# Altium schematic symbol library StarKit V1.0.SCHLIB: 63 symbols
Pins are listed as number, name and electrical type; pins without a type are passive.

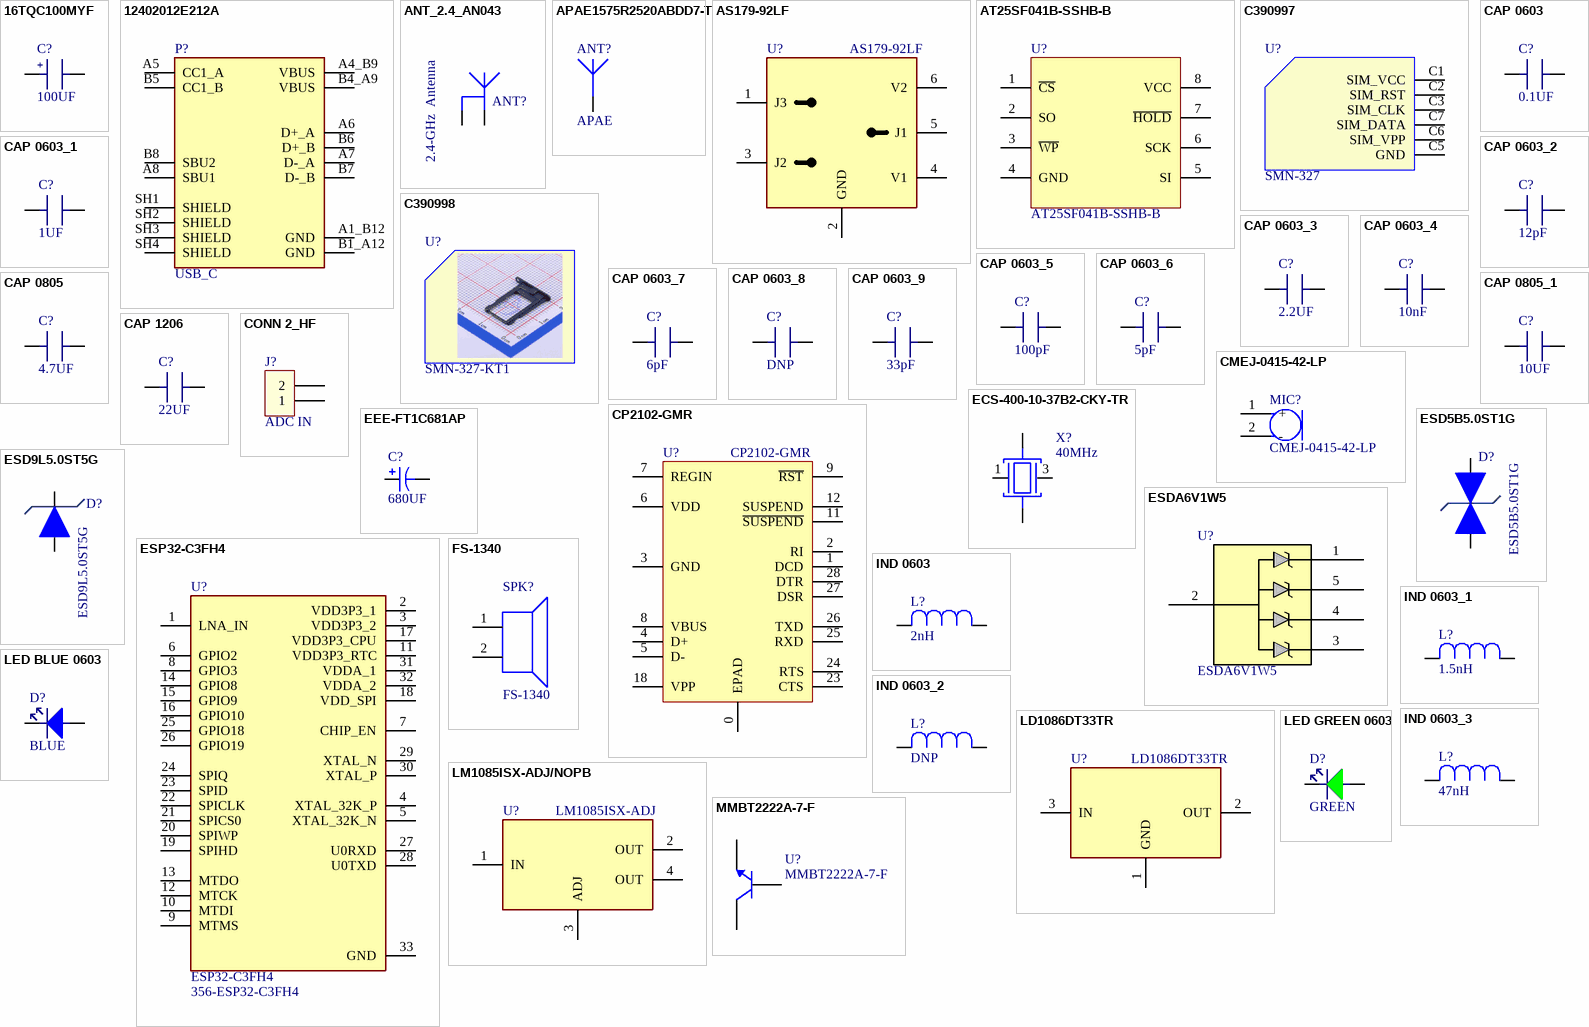
[diagram p0: symbols 16TQC100MYF to MMBT2222A-7-F]

## 16TQC100MYF
designator C?, comment 100UF
Tantalum Polymer Capacitor, 100 uF, 16 V, ± 20%, D2, 50 mohm, 2917 [7343-19 Metric]; Manufacturer: Panasonic; Manufacturer Part Number: 16TQC100MYF; Supplier 1: Mouser; RoHS: Yes; Category: Polymer Capacitors; Stock 1: 5797; Pricing 1: 1=2.61, 10=2.17, 50=1.93, 100=1.73, 1000=1.38, 10000=1.23 (USD); ComponentLink1URL: https://datasheet.ciiva.com/48674/aaa8000ce14-48674997.pdf?src-supplier=Avnet; ComponentLink1Description: https://datasheet.ciiva.com/48674/aaa8000ce14-48674997.pdf?src-supplier=Avnet; ComponentLink2URL: https://datasheet.ciiva.com/25784/1734368-25784893.pdf?src-supplier=Farnell; ComponentLink2Description: https://datasheet.ciiva.com/25784/1734368-25784893.pdf?src-supplier=Farnell; ComponentLink3URL: https://datasheet.ciiva.com/22745/1734368-22745198.pdf?src-supplier=Element14; ComponentLink3Description: https://datasheet.ciiva.com/22745/1734368-22745198.pdf?src-supplier=Element14; Supplier Part Number 1: 667-16TQC100MYF
footprint CAP: TANTAL-D
pins: 1 + "positive", 2 - "negative"

## 12402012E212A
designator P?, comment USB_C
USB Connectors USB2.0, Type C, Top mount, CH 1.68mm, Dual Row SMT; Manufacturer: Amphenol; Manufacturer Part Number: 12402012E212A; Supplier: Mouser; Supplier Part Number: 523-12402012E212A; RoHS: No; Category: Connectors; Stock: 14661; Pricing: 1=0.66, 10=0.523, 50=0.502, 100=0.46, 1000=0.345, 10000=0.293 (USD); Supplier 1: Mouser; Supplier Part Number 1: 523-12402012E212A
footprint AMPHENOL_12402012E212A
pins: A1_B12 GND, A4_B9 VBUS, A5 CC1_A, A6 D+_A, A7 D-_A, A8 SBU1, B1_A12 GND, B4_A9 VBUS, B5 CC1_B, B6 D+_B, B7 D-_B, B8 SBU2, SH1 SHIELD, SH2 SHIELD, SH3 SHIELD, SH4 SHIELD

## ANT_2.4_AN043
designator ANT?, comment 2.4-GHz  Antenna
Frequency 2.4 GHz             Typical Efficiency 68%               Bandwidth@ VSWR 2:0 101 MHz            Dimensions (mm) 15 x 8
footprint ANT_2.4_AN043 (Frequency 2.4 GHz / Typical Efficiency 80%(EB) 94%(SA) / Dimensions (mm) 26 x 8)
pins: 1, 2

## APAE1575R2520ABDD7-T
designator ANT?, comment APAE
1575.42MHZ, 25*25*2mm GPS Patch Antenna; Manufacturer: Abracon; Manufacturer Part Number: APAE1575R2520ABDD7-T; Supplier 1: Mouser; RoHS: Yes; Category: RF Antennas; Stock 1: 803; Pricing 1: 1=1.7, 10=1.23, 50=1.23, 100=1.23, 1000=0.777, 10000=0.748 (USD); ComponentLink1URL: https://datasheet.ciiva.com/6491/apae1575r2520abdd7-t-6491907.pdf?src-supplier=Digi-Key; ComponentLink1Description: https://datasheet.ciiva.com/6491/apae1575r2520abdd7-t-6491907.pdf?src-supplier=Digi-Key; ComponentLink2URL: https://datasheet.ciiva.com/12398/apae1575r2520abdd7-t-218096-12398364.pdf?src-supplier=Mouser; ComponentLink2Description: https://datasheet.ciiva.com/12398/apae1575r2520abdd7-t-218096-12398364.pdf?src-supplier=Mouser; Supplier Part Number 1: 815-1575R2520ABDD7T
footprint Ceramic Patch Antenna 25x25
pins: 1

## AS179-92LF
designator U?
RF Switch SPDT 0.02MHz to 4GHz 20dB Automotive 6-Pin SC-88 T/R / IC SW SPDT DC-3GHZ GAAS SC70-6; Manufacturer: Skyworks Solutions; Supplier: Mouser; Supplier Part Number: 873-AS179-92LF; Manufacturer Part Number: AS179-92LF; RoHS: Yes; Category: Integrated Circuits (ICs); Stock: 56001; Pricing: 1=1.19, 10=1.02, 50=1.02, 100=0.778, 1000=0.543, 10000=0.462 (USD); ComponentLink1URL: https://datasheet.ciiva.com/12080/200176g-18773-12080182.pdf?src-supplier=Mouser; ComponentLink1Description: https://datasheet.ciiva.com/12080/200176g-18773-12080182.pdf?src-supplier=Mouser; ComponentLink2URL: https://datasheet.ciiva.com/15100/getdatasheetpartid-658205-15100462.pdf?src-supplier=Verical; ComponentLink2Description: https://datasheet.ciiva.com/15100/getdatasheetpartid-658205-15100462.pdf?src-supplier=Verical; ComponentLink3URL: https://datasheet.ciiva.com/22694/1909043-22694026.pdf?src-supplier=Element14; ComponentLink3Description: https://datasheet.ciiva.com/22694/1909043-22694026.pdf?src-supplier=Element14; ComponentLink4URL: https://datasheet.ciiva.com/2799/200176g-2799448.pdf?src-supplier=Digi-Key; ComponentLink4Description: https://datasheet.ciiva.com/2799/200176g-2799448.pdf?src-supplier=Digi-Key; ComponentLink5URL: https://datasheet.ciiva.com/2799/200176g-2799449.pdf?src-supplier=Digi-Key; ComponentLink5Description: https://datasheet.ciiva.com/2799/200176g-2799449.pdf?src-supplier=Digi-Key; ComponentLink6URL: https://datasheet.ciiva.com/2799/200176g-2799450.pdf?src-supplier=Digi-Key; ComponentLink6Description: https://datasheet.ciiva.com/2799/200176g-2799450.pdf?src-supplier=Digi-Key; Supplier 1: Mouser; Supplier Part Number 1: 873-AS179-92LF
footprint SC70-6 (SOT23, 5-Leads, Body 2,90x2,80mm, Pitch 0,95mm, IPC Medium Density)
pins: 1 J3, 2 GND, 3 J2, 4 V1, 5 J1, 6 V2

## AT25SF041B-SSHB-B
designator U?
NOR Flash Serial (SPI, Dual SPI, Quad SPI) 3.3V 4M-bit 512K x 8 7ns Tube; Manufacturer: Renesas; Supplier: Mouser; Supplier Part Number: 988-AT25SF041-SSH-B; Manufacturer Part Number: AT25SF041B-SSHB-B; RoHS: No; Category: Memory; Stock: 14517; Pricing: 1=0.42, 10=0.38, 50=0.38, 100=0.333, 1000=0.326, 10000=0.287 (USD); Supplier 1: Mouser; Supplier Part Number 1: 988-AT25SF041-SSH-B
footprint 8-SOIC
pins: 1 ~{CS}, 2 SO, 3 ~{WP}, 4 GND, 5 SI, 6 SCK, 7 ~{HOLD}, 8 VCC

## C390997
designator U?, comment SMN-327
NanoSIM SMD SIM Card Connectors; Publisher: Bastam Beyrami; ComponentLink1Description: LCSC; ComponentLink1URL: https://lcsc.com/product-detail/SIM-Card-Connectors_XUNPU-SMN-327_C390997.html
footprint SIM_NANO_SMN-327
pins: C1 SIM_VCC, C2 SIM_RST, C3 SIM_CLK, C5 GND, C6 SIM_VPP, C7 SIM_DATA

## C390998
designator U?, comment SMN-327-KT1  (mechanical)
NanoSIM tray SIM Card Connectors; Publisher: Bastam Beyrami; ComponentLink1Description: LCSC; ComponentLink1URL: https://lcsc.com/product-detail/SIM-Card-Connectors_XUNPU-SMN-327-KT1_C390998.html

## CAP 0603
designator C?, comment 0.1UF
CAP SMD 0603
footprint CAP: 0603
pins: 1 A, 2 B

## CAP 0603_1
designator C?, comment 1UF
CAP SMD 0603
footprint CAP: 0603
pins: 1 A, 2 B

## CAP 0603_2
designator C?, comment 12pF
CAP SMD 0603
footprint CAP: 0603
pins: 1 A, 2 B

## CAP 0603_3
designator C?, comment 2.2UF
CAP SMD 0603
footprint CAP: 0603
pins: 1 A, 2 B

## CAP 0603_4
designator C?, comment 10nF
CAP SMD 0603
footprint CAP: 0603
pins: 1 A, 2 B

## CAP 0603_5
designator C?, comment 100pF
CAP SMD 0603
footprint CAP: 0603
pins: 1 A, 2 B

## CAP 0603_6
designator C?, comment 5pF
CAP SMD 0603
footprint CAP: 0603
pins: 1 A, 2 B

## CAP 0603_7
designator C?, comment 6pF
CAP SMD 0603
footprint CAP: 0603
pins: 1 A, 2 B

## CAP 0603_8
designator C?, comment DNP
CAP SMD 0603
footprint CAP: 0603
pins: 1 A, 2 B

## CAP 0603_9
designator C?, comment 33pF
CAP SMD 0603
footprint CAP: 0603
pins: 1 A, 2 B

## CAP 0805
designator C?, comment 4.7UF
CAP SMD 0805
footprint CAP: 0805
pins: 1 A, 2 B

## CAP 0805_1
designator C?, comment 10UF
CAP SMD 0805
footprint CAP: 0805
pins: 1 A, 2 B

## CAP 1206
designator C?, comment 22UF
CAP SMD 1206
footprint CAP: 1206
pins: 1 A, 2 B

## CMEJ-0415-42-LP
designator MIC?
4.0 mm, Omnidirectional, PCB Mount, 2.0 Vdc, Elecret Condenser Microphone; Manufacturer: CUI Devices; Supplier 1: Mouser; Manufacturer Part Number: CMEJ-0415-42-LP; RoHS: No; Category: Microphones; Stock 1: 3285; Pricing 1: 1=0.43, 10=0.367, 50=0.367, 100=0.308, 1000=0.254, 10000=0.209 (USD); ComponentLink1URL: https://www.cuidevices.com/product/resource/digikeypdf/cmej-0415-42-lp.pdf?src-supplier=Digi-Key; ComponentLink1Description: https://www.cuidevices.com/product/resource/digikeypdf/cmej-0415-42-lp.pdf?src-supplier=Digi-Key; Supplier Part Number 1: 490-CMEJ-0415-42-LP
footprint CMEJ041542LP
pins: 1 +, 2 -

## CONN 2_HF
designator J?, comment ADC IN
footprint CON: PLS-2
pins: 1, 2 (power)

## CP2102-GMR
designator U?
Interface IC low speed/full speed USB to UART bridge USB 2.0 3.3V, CP2102-GMR, VFQFN-28; Manufacturer: Silicon Labs; Number of Channels: 1; Data Rate: 1000Kbps; Max Supply Voltage: 3.6V; Min Supply Voltage: 3V; Operating Supply Current: 20mA; Supply Current: 26mA; Supplier 1: Mouser; Manufacturer Part Number: CP2102-GMR; RoHS: Yes; Category: Interface ICs; Stock 1: 44709; Pricing 1: 1=9.23, 10=8.41, 50=7.82, 100=6.93, 1000=5.28, 10000=5.16 (USD); Mount: Surface Mount; Case/Package: QFN; Number of Pins: 28; Weight: 0.00239oz; Contact Plating: Tin; Min Operating Temperature: -40°C; Max Operating Temperature: 85°C; Packaging: Tape and Reel; Package Quantity: 1500; Interface: UART; Series: -; Radiation Hardening: No; Lead Free: Lead Free; RoHS Compliant: Yes; ComponentLink1URL: https://datasheet.ciiva.com/6636/cp2102-9-6636566.pdf?src-supplier=Digi-Key; ComponentLink1Description: https://datasheet.ciiva.com/6636/cp2102-9-6636566.pdf?src-supplier=Digi-Key; ComponentLink2URL: https://datasheet.ciiva.com/6636/cp2102-9-6636571.pdf?src-supplier=Digi-Key; ComponentLink2Description: https://datasheet.ciiva.com/6636/cp2102-9-6636571.pdf?src-supplier=Digi-Key; Supplier Part Number 1: 634-CP2102-GMR
footprint 28-QFN (5x5) (5x5 mm, pitch 0.5 mm, power pad)
pins: 0 EPAD, 1 DCD, 2 RI, 3 GND, 4 D+, 5 D-, 6 VDD, 7 REGIN, 8 VBUS, 9 ~{RST}, 11 ~{SUSPEND}, 12 SUSPEND, 18 VPP, 23 CTS, 24 RTS, 25 RXD, 26 TXD, 27 DSR, 28 DTR

## ECS-400-10-37B2-CKY-TR
designator X?, comment 40MHz
Crystal 40MHz 10pF 4-Pin SMD ECX-1637B2 T/R; Manufacturer: ECS International; Manufacturer Part Number: ECS-400-10-37B2-CKY-TR; Supplier 1: Mouser; RoHS: No; Category: Uncategorized; Stock 1: 5766; Pricing 1: 1=0.38, 10=0.285, 50=0.285, 100=0.253, 1000=0.203, 10000=0.176 (USD); Supplier Part Number 1: 520-400-10-37B2CKYTR
footprint 4-SMD, No Lead ECS
pins: 1, 2 GND (power), 3, 4 GND (power)

## EEE-FT1C681AP
designator C?, comment 680UF
Cap Aluminum 680uF 16V 20% (8 X 10.2mm) SMD 0.08 Ohm 850mA 2000h 105 C T/R; Manufacturer: Panasonic; Manufacturer Part Number: EEE-FT1C681AP; Supplier 1: Mouser; RoHS: Yes; Category: Aluminum Electrolytic Capacitors; Stock 1: 3000; Pricing 1: 1=0.97, 10=0.601, 50=0.601, 100=0.528, 1000=0.352, 10000=0.296 (USD); ComponentLink1URL: https://datasheet.ciiva.com/11777/0900766b8103053b-11777415.pdf?src-supplier=Rs; ComponentLink1Description: https://datasheet.ciiva.com/11777/0900766b8103053b-11777415.pdf?src-supplier=Rs; ComponentLink2URL: https://datasheet.ciiva.com/2985/aba0000ce135-2985584.pdf?src-supplier=Avnet; ComponentLink2Description: https://datasheet.ciiva.com/2985/aba0000ce135-2985584.pdf?src-supplier=Avnet; ComponentLink3URL: https://datasheet.ciiva.com/48523/smd-ft-eng-tds-48523095.pdf?src-supplier=Distrelec; ComponentLink3Description: https://datasheet.ciiva.com/48523/smd-ft-eng-tds-48523095.pdf?src-supplier=Distrelec; Supplier Part Number 1: 667-EEE-FT1C681AP
footprint CAP_ELEC_8X10.5
pins: 1, 2

## ESD5B5.0ST1G
designator D?
ESD5B5.0S Series 5.8 V 50 W 32 pF SMT ESD Protection Diode - SOD-523; Manufacturer: ON Semiconductor; Supplier 1: Mouser; Manufacturer Part Number: ESD5B5.0ST1G; RoHS: Yes; Category: ESD and Circuit Protection ICs; Stock 1: 309834; Pricing 1: 1=0.27, 10=0.185, 50=0.185, 100=0.086, 1000=0.063, 10000=0.038 (USD); ComponentLink1URL: https://datasheet.ciiva.com/339/esd5b5-0st1g-339772.pdf?src-supplier=Digi-Key; ComponentLink1Description: https://datasheet.ciiva.com/339/esd5b5-0st1g-339772.pdf?src-supplier=Digi-Key; ComponentLink2URL: https://datasheet.ciiva.com/339/esd5b5-0st1g-339772.pdf?src-supplier=Avnet; ComponentLink2Description: https://datasheet.ciiva.com/339/esd5b5-0st1g-339772.pdf?src-supplier=Avnet; ComponentLink3URL: https://datasheet.ciiva.com/4510/esd5b5-0st1g-241623-4510548.pdf?src-supplier=Mouser; ComponentLink3Description: https://datasheet.ciiva.com/4510/esd5b5-0st1g-241623-4510548.pdf?src-supplier=Mouser; ComponentLink4URL: https://datasheet.ciiva.com/22637/716649-22637178.pdf?src-supplier=Element14; ComponentLink4Description: https://datasheet.ciiva.com/22637/716649-22637178.pdf?src-supplier=Element14; ComponentLink5URL: https://datasheet.ciiva.com/339/esd5b5-0st1-d-339773.pdf?src-supplier=Digi-Key; ComponentLink5Description: https://datasheet.ciiva.com/339/esd5b5-0st1-d-339773.pdf?src-supplier=Digi-Key; ComponentLink6URL: https://datasheet.ciiva.com/339/esd5b5-0st1-d-339774.pdf?src-supplier=Digi-Key; ComponentLink6Description: https://datasheet.ciiva.com/339/esd5b5-0st1-d-339774.pdf?src-supplier=Digi-Key; Supplier Part Number 1: 863-ESD5B50ST1G
footprint SOD-523-2
pins: 1, 2

## ESD9L5.0ST5G
designator D?
ESD Suppressor Diode TVS Uni-Dir 5V 9.8Vc 2-Pin SOD-923 T/R; Manufacturer: ON Semiconductor; Supplier 1: Mouser; Manufacturer Part Number: ESD9L5.0ST5G; RoHS: Yes; Category: ESD and Circuit Protection ICs; Pricing 1: 1=0.34, 10=0.245, 50=0.245, 100=0.097, 1000=0.066, 10000=0.05 (USD); ComponentLink1URL: https://datasheet.ciiva.com/15143/getdatasheetpartid-185186-15143896.pdf?src-supplier=Verical; ComponentLink1Description: https://datasheet.ciiva.com/15143/getdatasheetpartid-185186-15143896.pdf?src-supplier=Verical; ComponentLink2URL: https://datasheet.ciiva.com/339/esd9l-d-339853.pdf?src-supplier=Digi-Key; ComponentLink2Description: https://datasheet.ciiva.com/339/esd9l-d-339853.pdf?src-supplier=Digi-Key; ComponentLink3URL: https://datasheet.ciiva.com/339/esd9l-d-339854.pdf?src-supplier=Digi-Key; ComponentLink3Description: https://datasheet.ciiva.com/339/esd9l-d-339854.pdf?src-supplier=Digi-Key; ComponentLink4URL: https://datasheet.ciiva.com/339/esd9l-d-339855.pdf?src-supplier=Digi-Key; ComponentLink4Description: https://datasheet.ciiva.com/339/esd9l-d-339855.pdf?src-supplier=Digi-Key; ComponentLink5URL: https://datasheet.ciiva.com/3304/esd9l-d-3304011.pdf?src-supplier=Avnet; ComponentLink5Description: https://datasheet.ciiva.com/3304/esd9l-d-3304011.pdf?src-supplier=Avnet; ComponentLink6URL: https://datasheet.ciiva.com/11195/esd9l-d-11195342.pdf?src-supplier=Avnet; ComponentLink6Description: https://datasheet.ciiva.com/11195/esd9l-d-11195342.pdf?src-supplier=Avnet; ComponentLink7URL: https://datasheet.ciiva.com/16437/esd9l-d-16437835.pdf?src-supplier=Future+Electronics; ComponentLink7Description: https://datasheet.ciiva.com/16437/esd9l-d-16437835.pdf?src-supplier=Future+Electronics; Supplier Part Number 1: 863-ESD9L5.0ST5G
footprint SOD-923-2
pins: 1, 2

## ESDA6V1W5
designator U?
ESDA Series 4 Channel 6.1V 90 pF SMT Uni-Directional Transil Array - SOT-323-5L; Manufacturer: STMicroelectronics; Direction: Unidirectional; Number of Elements: 4; Value: 90pF; Operating Supply Voltage: 3V; Breakdown Voltage: 7.2V; Peak Pulse Power: 150W; Power Line Protection: No; Leakage Current: 1uA; Test Current: 1mA; ESD Protection: Yes; Peak Pulse Current: 15A; Diode Type: ZENER; Supplier: Mouser; Supplier Part Number: 511-ESDA6V1W5; Manufacturer Part Number: ESDA6V1W5; RoHS: Yes; Category: TVS Diodes; Stock: 3674; Pricing: 1=0.43, 10=0.362, 50=0.362, 100=0.285, 1000=0.178, 10000=0.125 (USD); Mounting Technology: Surface Mount; Case/Package: SOT-323; Pins: 5; Min Operating Temperature: -40°C; Max Operating Temperature: 125°C; Packaging: Tape and Reel; Reverse Breakdown Voltage: 6.1V; Package Quantity: 1; Polarity: Unidirectional; Number of Channels: 4; Termination: SMD/SMT; Number of Unidirectional Channels: 4; Reverse Standoff Voltage: 3V; Min Breakdown Voltage: 6.1V; Working Voltage: 3V; Max Reverse Leakage Current: 1uA; Max Breakdown Voltage: 7.2V; Voltage Rating (DC): 6.1V; Series: ESDA, TRANSIL™; Length: 2.2mm; Width: 1.35mm; Height: 1mm; Depth: 1.35mm; Radiation Hardening: No; Reach SVHC Compliant: No; Lead Free: Lead Free; RoHS Compliant: Yes; ComponentLink1URL: https://datasheet.ciiva.com/15143/getdatasheetpartid-134557-15143650.pdf?src-supplier=Verical; ComponentLink1Description: https://datasheet.ciiva.com/15143/getdatasheetpartid-134557-15143650.pdf?src-supplier=Verical; ComponentLink2URL: https://datasheet.ciiva.com/1276/1671027-1276908.pdf?src-supplier=Element14; ComponentLink2Description: https://datasheet.ciiva.com/1276/1671027-1276908.pdf?src-supplier=Element14; ComponentLink3URL: https://datasheet.ciiva.com/22695/1671027-22695673.pdf?src-supplier=Element14; ComponentLink3Description: https://datasheet.ciiva.com/22695/1671027-22695673.pdf?src-supplier=Element14; ComponentLink4URL: https://datasheet.ciiva.com/338/cd00064033-338380.pdf?src-supplier=Digi-Key; ComponentLink4Description: https://datasheet.ciiva.com/338/cd00064033-338380.pdf?src-supplier=Digi-Key; ComponentLink5URL: https://datasheet.ciiva.com/338/cd00064033-338379.pdf?src-supplier=Digi-Key; ComponentLink5Description: https://datasheet.ciiva.com/338/cd00064033-338379.pdf?src-supplier=Digi-Key; ComponentLink6URL: https://datasheet.ciiva.com/338/cd00064033-338381.pdf?src-supplier=Digi-Key; ComponentLink6Description: https://datasheet.ciiva.com/338/cd00064033-338381.pdf?src-supplier=Digi-Key; ComponentLink7URL: https://datasheet.ciiva.com/41443/001184222-da-01-en-transil-array-da-esda6v1w5-sot-323-5-stm-41443642.pdf?src-supplier=Conrad; ComponentLink7Description: https://datasheet.ciiva.com/41443/001184222-da-01-en-transil-array-da-esda6v1w5-sot-323-5-stm-41443642.pdf?src-supplier=Conrad; Supplier 1: Mouser; Supplier Part Number 1: 511-ESDA6V1W5
footprint SOT323-5L
pins: 1, 2, 3, 4, 5

## ESP32-C3FH4
designator U?  Supplier Part Number 1: 356-ESP32-C3FH4
SoC 32-Bit RISC 160MHz Single Core 4MB 32-Pin QFN T/R; Manufacturer: Espressif Systems; Supplier 1: Mouser; Manufacturer Part Number: ESP32-C3FH4; RoHS: No; Stock 1: 6949; Pricing 1: 1=1.3, 10=1.3, 50=1.3, 100=1.3, 1000=1.3, 10000=1.3 (USD)
footprint QFN-32 (QFN, 32-Leads, Body 5.00x5.00mm, Pitch 0.50mm, Thermal Pad 3.45x3.45mm, IPC Medium Density)
pins: 1 LNA_IN, 2 VDD3P3_1, 3 VDD3P3_2, 4 XTAL_32K_P, 5 XTAL_32K_N, 6 GPIO2, 7 CHIP_EN, 8 GPIO3, 9 MTMS, 10 MTDI, 11 VDD3P3_RTC, 12 MTCK, 13 MTDO, 14 GPIO8, 15 GPIO9, 16 GPIO10, 17 VDD3P3_CPU, 18 VDD_SPI, 19 SPIHD, 20 SPIWP, 21 SPICS0, 22 SPICLK, 23 SPID, 24 SPIQ, 25 GPIO18, 26 GPIO19, 27 U0RXD, 28 U0TXD, 29 XTAL_N, 30 XTAL_P, 31 VDDA_1, 32 VDDA_2, 33 GND

## FS-1340
designator SPK?
Speakers ROHS; ComponentLink1Description: LCSC; ComponentLink1URL: https://www.lcsc.com/product-detail/Speakers_FUET-FS-1340_C482342.html
footprint SPKR_SMS-1508MS-HT-R
pins: 1 +, 2 -

## IND 0603
designator L?, comment 2nH
IND SMD 0603
footprint IND: 0603
pins: 1, 2

## IND 0603_1
designator L?, comment 1.5nH
IND SMD 0603
footprint IND: 0603
pins: 1, 2

## IND 0603_2
designator L?, comment DNP
IND SMD 0603
footprint IND: 0603
pins: 1, 2

## IND 0603_3
designator L?, comment 47nH
IND SMD 0603
footprint IND: 0603
pins: 1, 2

## LD1086DT33TR
designator U?
IC REG LDO 3.3V 1.5A DPAK; Manufacturer: STMicroelectronics; Number of Outputs: 1; Max Supply Voltage: 30V; Dropout Voltage: 1.3V; Polarity: Positive; Quiescent Current: 10mA; Accuracy: 1%; Output Type: Fixed; Min Input Voltage: 6.3V; Input Bias Current: 5mA; Supplier: Mouser; Supplier Part Number: 511-LD1086DT33-TR; Manufacturer Part Number: LD1086DT33TR; RoHS: Yes; Category: Voltage Regulators - Linear; Stock: 228; Pricing: 1=1.61, 10=1.44, 50=1.35, 100=1.13, 1000=0.733, 10000=0.687 (USD); Mounting Technology: Surface Mount; Case/Package: TO-252; Pins: 3; Min Operating Temperature: -40°C; Max Operating Temperature: 125°C; Output Voltage: 3.3V; Packaging: Cut Tape; Max Output current: 1.5A; Output Current: 1.5A; Package Quantity: 1; Series: -; Nominal Output Voltage: 3.3V; Number of Regulators: 1; Min Output Voltage: 3.3V; Length: 6.6mm; Width: 6.2mm; Height: 2.4mm; Radiation Hardening: No; Reach SVHC Compliant: No; Lead Free: Lead Free; RoHS Compliant: Yes; ComponentLink1URL: https://datasheet.ciiva.com/1511/1880971-1511550.pdf?src-supplier=Element14; ComponentLink1Description: https://datasheet.ciiva.com/1511/1880971-1511550.pdf?src-supplier=Element14; ComponentLink2URL: https://datasheet.ciiva.com/1511/1880971-1511549.pdf?src-supplier=Element14; ComponentLink2Description: https://datasheet.ciiva.com/1511/1880971-1511549.pdf?src-supplier=Element14; ComponentLink3URL: https://datasheet.ciiva.com/2043/cd00001884-2043961.pdf?src-supplier=Digi-Key; ComponentLink3Description: https://datasheet.ciiva.com/2043/cd00001884-2043961.pdf?src-supplier=Digi-Key; ComponentLink4URL: https://datasheet.ciiva.com/2043/cd00001884-2043960.pdf?src-supplier=Digi-Key; ComponentLink4Description: https://datasheet.ciiva.com/2043/cd00001884-2043960.pdf?src-supplier=Digi-Key; ComponentLink5URL: https://datasheet.ciiva.com/2043/cd00001884-2043962.pdf?src-supplier=Digi-Key; ComponentLink5Description: https://datasheet.ciiva.com/2043/cd00001884-2043962.pdf?src-supplier=Digi-Key; ComponentLink6URL: https://datasheet.ciiva.com/3225/cd00001884-3225081.pdf?src-supplier=Avnet; ComponentLink6Description: https://datasheet.ciiva.com/3225/cd00001884-3225081.pdf?src-supplier=Avnet; ComponentLink7URL: https://datasheet.ciiva.com/16496/cd00001884-16496030.pdf?src-supplier=Future+Electronics; ComponentLink7Description: https://datasheet.ciiva.com/16496/cd00001884-16496030.pdf?src-supplier=Future+Electronics; Supplier 1: Mouser; Supplier Part Number 1: 511-LD1086DT33-TR
footprint DPAK
pins: 1 GND, 2 OUT, 3 IN

## LED BLUE 0603
designator D?, comment BLUE
LED BLUE CLEAR 0603 SMD
footprint LED: 0603B
pins: 1 C "Cathod", 2 A "Anod"

## LED GREEN 0603
designator D?, comment GREEN
LED GREEN CLEAR 0603 SMD
footprint LED: 0603G
pins: 1 C "Cathod", 2 A "Anod"

## LM1085ISX-ADJ/NOPB
designator U?, comment LM1085ISX-ADJ
3-A, 29-V, linear voltage regulator 3-DDPAK/TO-263 -40 to 125; Manufacturer: TI National Semiconductor; Manufacturer Part Number: LM1085ISX-ADJ/NOPB; Supplier: Mouser; Supplier Part Number: 926-LM1085ISXADJNOPB; RoHS: Yes; Category: Voltage Regulators - Linear; Stock: 9505; Pricing: 1=2.08, 10=1.83, 50=1.83, 100=1.47, 1000=1.02, 10000=0.896 (USD); ComponentLink1URL: https://datasheet.ciiva.com/6582/lm1085-6582736.pdf?src-supplier=Digi-Key; ComponentLink1Description: https://datasheet.ciiva.com/6582/lm1085-6582736.pdf?src-supplier=Digi-Key; ComponentLink2URL: https://datasheet.ciiva.com/41457/001013601-da-01-en-ic-reg-l-lm1085isx-adj-nopb-to-263-3-tid-41457358.pdf?src-supplier=Conrad; ComponentLink2Description: https://datasheet.ciiva.com/41457/001013601-da-01-en-ic-reg-l-lm1085isx-adj-nopb-to-263-3-tid-41457358.pdf?src-supplier=Conrad; Supplier 1: Mouser; Supplier Part Number 1: 926-LM1085ISXADJNOPB
footprint TO263-3
pins: 1 IN, 2 OUT, 3 ADJ, 4 OUT

## MMBT2222A-7-F
designator U?
MMBT2222 Series NPN 350 mW 40 V 600 mA SMT Small Signal Transistor - SOT-23; Manufacturer: Diodes; hFE Min: 100; Frequency: 300MHz; Max Power Dissipation: 300mW; Number of Elements: 1; Collector Emitter Voltage (VCEO): 40V; Collector Base Voltage (VCBO): 75V; Emitter Base Voltage (VEBO): 6V; Collector Emitter Saturation Voltage: 1V; Max Collector Current: 600mA; Power Dissipation: 350mW; Current: 1A; Supplier 1: Mouser; Manufacturer Part Number: MMBT2222A-7-F; RoHS: Yes; Category: BJTs; Stock 1: 1332144; Pricing 1: 1=0.14, 10=0.097, 50=0.097, 100=0.041, 1000=0.028, 10000=0.016 (USD); Mount: Surface Mount; Case/Package: SOT-23; Number of Pins: 3; Weight: 0.000282oz; Min Operating Temperature: -55°C; Max Operating Temperature: 150°C; Polarity: NPN; Packaging: Tape and Reel; Package Quantity: 3000; Continuous Collector Current: 600mA; Collector Emitter Breakdown Voltage: 40V; Transition Frequency: 300MHz; Max Breakdown Voltage: 40V; Max Frequency: 300MHz; Termination: SMD/SMT; Gain Bandwidth Product: 300MHz; Voltage Rating (DC): 40V; Current Rating: 600mA; Voltage: 40V; Collector-emitter Voltage-Max: 1V; Series: Automotive, AEC-Q101; Length: 3.05mm; Width: 1.4mm; Height: 1mm; Radiation Hardening: No; Reach SVHC Compliant: No; Lead Free: Lead Free; RoHS Compliant: Yes; ComponentLink1URL: https://datasheet.ciiva.com/15139/getdatasheetpartid-82692-15139078.pdf?src-supplier=Verical; ComponentLink1Description: https://datasheet.ciiva.com/15139/getdatasheetpartid-82692-15139078.pdf?src-supplier=Verical; ComponentLink2URL: https://datasheet.ciiva.com/8029/ds30041-8029709.pdf?src-supplier=Element14; ComponentLink2Description: https://datasheet.ciiva.com/8029/ds30041-8029709.pdf?src-supplier=Element14; ComponentLink3URL: https://datasheet.ciiva.com/11201/ds30041-11201864.pdf?src-supplier=Avnet; ComponentLink3Description: https://datasheet.ciiva.com/11201/ds30041-11201864.pdf?src-supplier=Avnet; ComponentLink4URL: https://datasheet.ciiva.com/16199/ds30041-16199045.pdf?src-supplier=Future+Electronics; ComponentLink4Description: https://datasheet.ciiva.com/16199/ds30041-16199045.pdf?src-supplier=Future+Electronics; ComponentLink5URL: https://datasheet.ciiva.com/11198/ds30041-11198965.pdf?src-supplier=Avnet; ComponentLink5Description: https://datasheet.ciiva.com/11198/ds30041-11198965.pdf?src-supplier=Avnet; ComponentLink6URL: https://datasheet.ciiva.com/972/ds30041-972551.pdf?src-supplier=Digi-Key; ComponentLink6Description: https://datasheet.ciiva.com/972/ds30041-972551.pdf?src-supplier=Digi-Key; ComponentLink7URL: https://datasheet.ciiva.com/972/ds30041-972552.pdf?src-supplier=Digi-Key; ComponentLink7Description: https://datasheet.ciiva.com/972/ds30041-972552.pdf?src-supplier=Digi-Key; ComponentLink8URL: https://datasheet.ciiva.com/972/ds30041-972550.pdf?src-supplier=Digi-Key; ComponentLink8Description: https://datasheet.ciiva.com/972/ds30041-972550.pdf?src-supplier=Digi-Key; Supplier Part Number 1: 621-MMBT2222A-F
footprint SOT23_3
pins: 1 B, 2 E, 3 C

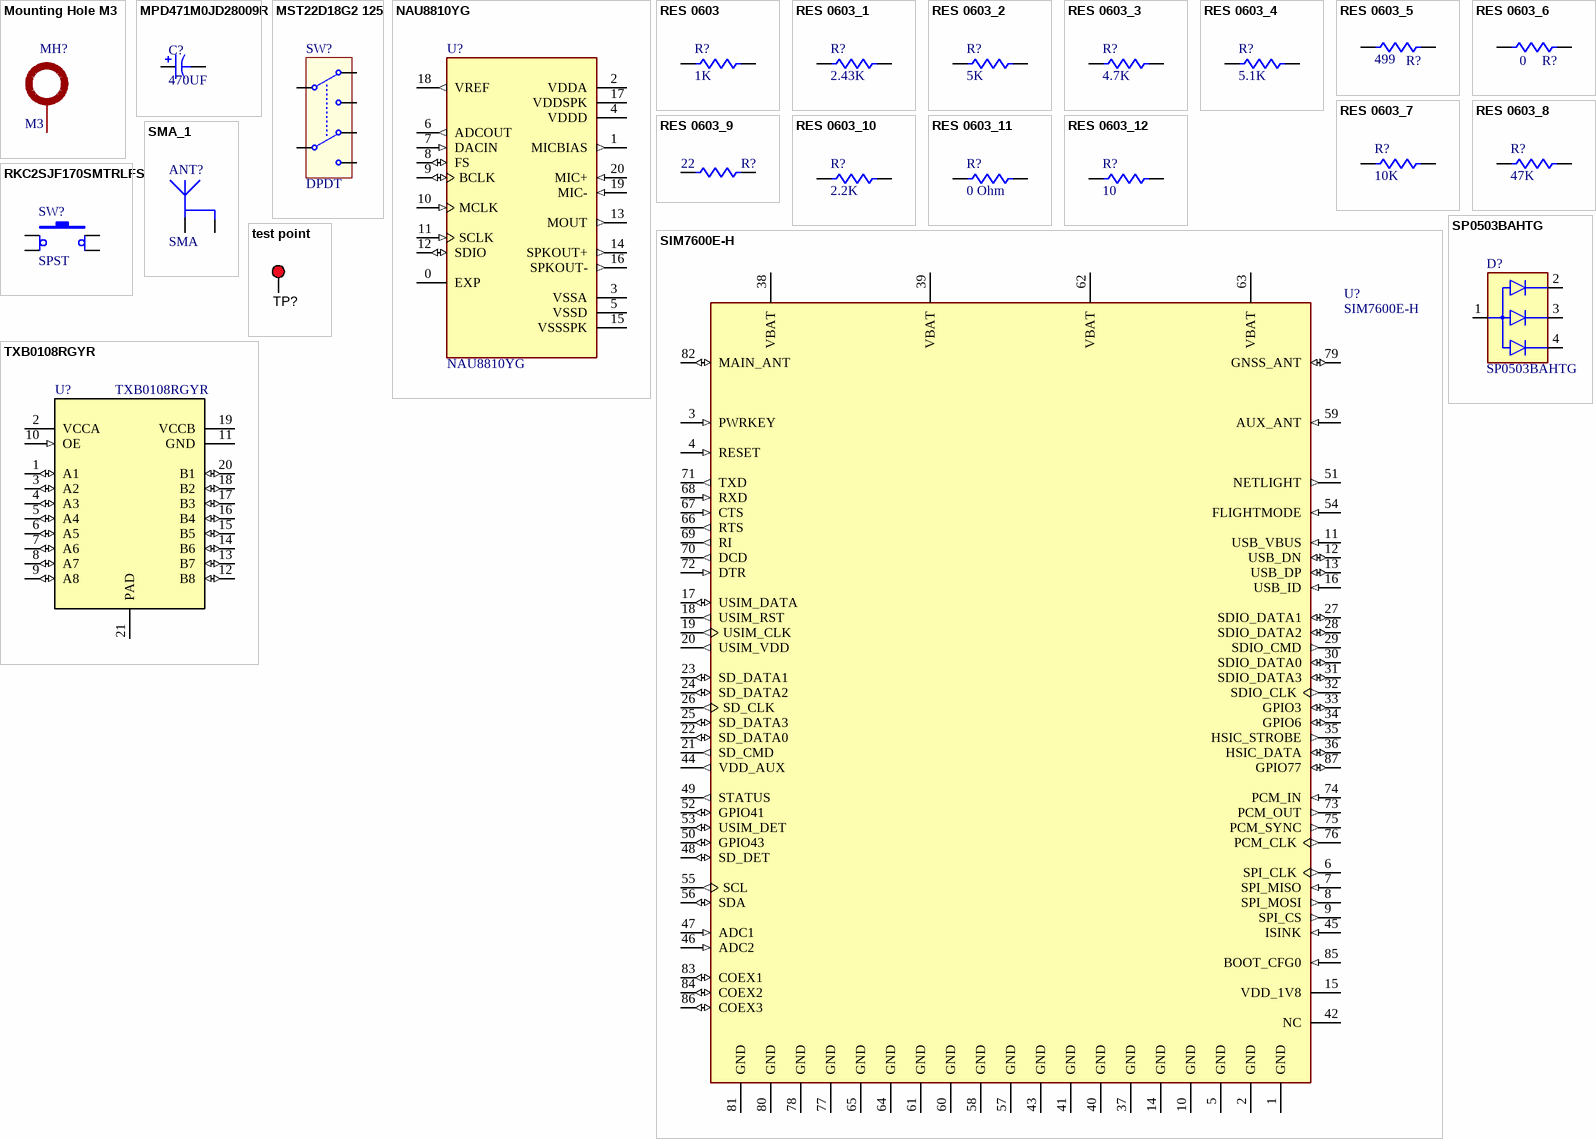
[diagram p1: symbols Mounting Hole M3 to TXB0108RGYR]

## Mounting Hole M3
designator MH?, comment M3
Mounting Hole M3 Screw
footprint M3 Mounting Hole
pins: 1

## MPD471M0JD28009R
designator C?, comment 470UF
4V 470uF ±20% SMD,4.3x7.3mm Solid Capacitors ROHS; ComponentLink1Description: LCSC; ComponentLink1URL: https://www.lcsc.com/product-detail/Solid-Capacitors_Ymin-MPD471M0JD28009R_C2997489.html
footprint CAP POLY: 7.3X4.3X2.8
pins: 1, 2

## MST22D18G2 125
designator SW?, comment DPDT
Swicth DPDT 0.1A 12V 10000 SMD Slide Switches
footprint DPDT SWITCH
pins: 1 B1, 2 COM1, 3 A1, 4 A2, 5 COM2, 6 B2

## NAU8810YG
designator U?
IC Audio Codec Mono 20QFN; Manufacturer: Nuvoton; Resolution: 24b; Supplier: Digi-Key; Supplier Part Number: NAU8810YG-ND; Manufacturer Part Number: NAU8810YG; RoHS: No; Category: Integrated Circuits (ICs); Stock: 27148; Pricing: 1=2.56, 10=2.302, 25=2.1716, 80=1.85013, 230=1.73722, 490=1.52004, 980=1.25947, 2450=1.17261, 4900=1.12918 (USD); Mounting Technology: Surface Mount; Case/Package: QFN; Min Operating Temperature: -40°C; Max Operating Temperature: 85°C; Packaging: Tray; Series: emPowerAudio™; ComponentLink1URL: https://datasheet.ciiva.com/18624/nau8810-datasheet-rev-1-2-18624999.pdf?src-supplier=Digi-Key; ComponentLink1Description: https://datasheet.ciiva.com/18624/nau8810-datasheet-rev-1-2-18624999.pdf?src-supplier=Digi-Key; Supplier 1: Digi-Key; Supplier Part Number 1: NAU8810YG-ND
footprint 20-QFN (4x4) (4x4 mm, pitch 0.5 mm, power pad)
pins: 0 EXP, 1 MICBIAS (out), 2 VDDA (power), 3 VSSA (power), 4 VDDD (power), 5 VSSD (power), 6 ADCOUT (out), 7 DACIN (in), 8 FS (io), 9 BCLK (io), 10 MCLK (in), 11 SCLK (in), 12 SDIO (io), 13 MOUT (out), 14 SPKOUT+ (out), 15 VSSSPK (power), 16 SPKOUT- (out), 17 VDDSPK (power), 18 VREF (out), 19 MIC- (in), 20 MIC+ (in)

## RES 0603
designator R?, comment 1K
RES SMD 0603
footprint RES: 0603
pins: 1, 2

## RES 0603_1
designator R?, comment 2.43K
RES SMD 0603
footprint RES: 0603
pins: 1, 2

## RES 0603_2
designator R?, comment 5K
RES SMD 0603
footprint RES: 0603
pins: 1, 2

## RES 0603_3
designator R?, comment 4.7K
RES SMD 0603
footprint RES: 0603
pins: 1, 2

## RES 0603_4
designator R?, comment 5.1K
RES SMD 0603
footprint RES: 0603
pins: 1, 2

## RES 0603_5
designator R?, comment 499
RES SMD 0603
footprint RES: 0603
pins: 1, 2

## RES 0603_6
designator R?, comment 0
RES SMD 0603
footprint RES: 0603
pins: 1, 2

## RES 0603_7
designator R?, comment 10K
RES SMD 0603
footprint RES: 0603
pins: 1, 2

## RES 0603_8
designator R?, comment 47K
RES SMD 0603
footprint RES: 0603
pins: 1, 2

## RES 0603_9
designator R?, comment 22
RES SMD 0603
footprint RES: 0603
pins: 1, 2

## RES 0603_10
designator R?, comment 2.2K
RES SMD 0603
footprint RES: 0603
pins: 1, 2

## RES 0603_11
designator R?, comment 0 Ohm
RES SMD 0603
footprint RES: 0603
pins: 1, 2

## RES 0603_12
designator R?, comment 10
RES SMD 0603
footprint RES: 0603
pins: 1, 2

## RKC2SJF170SMTRLFS
designator SW?, comment SPST
Switch Tactile OFF-MOM SPST-NO Button J-Lead 12VDC 100000Cycles 500gf SMD T/R; Manufacturer: ITT C&K; Manufacturer Part Number: RKC2SJF170SMTRLFS; Supplier 1: Mouser; RoHS: No; Category: Tactile Switches; Stock 1: 16876; Pricing 1: 1=0.29, 10=0.285, 50=0.285, 100=0.246, 1000=0.177, 10000=0.152 (USD); Supplier Part Number 1: 611-RKC2SJF170SMRLFS
footprint Tactile Switch RKC2SJF170SMTRLFS
pins: 1, 2, 3, 4

## SIM7600E-H
designator U?
RF TXRX MODULE CELLULAR LTE SMD
footprint SIM7600X
pins: 1 GND (power), 2 GND (power), 3 PWRKEY (in), 4 RESET (in), 5 GND (power), 6 SPI_CLK (out), 7 SPI_MISO (in), 8 SPI_MOSI (out), 9 SPI_CS (out), 10 GND (power), 11 USB_VBUS (in), 12 USB_DN (io), 13 USB_DP (io), 14 GND (power), 15 VDD_1V8 (power), 16 USB_ID (in), 17 USIM_DATA (io), 18 USIM_RST (out), 19 USIM_CLK (out), 20 USIM_VDD (out), 21 SD_CMD (out), 22 SD_DATA0 (io), 23 SD_DATA1 (io), 24 SD_DATA2 (io), 25 SD_DATA3 (io), 26 SD_CLK (out), 27 SDIO_DATA1 (io), 28 SDIO_DATA2 (io), 29 SDIO_CMD (out), 30 SDIO_DATA0 (io), 31 SDIO_DATA3 (io), 32 SDIO_CLK (out), 33 GPIO3 (io), 34 GPIO6 (io), 35 HSIC_STROBE (out), 36 HSIC_DATA (io), 37 GND (power), 38 VBAT (power), 39 VBAT (power), 40 GND (power), 41 GND (power), 42 NC, 43 GND (power), 44 VDD_AUX (out), 45 ISINK (in), 46 ADC2 (in), 47 ADC1 (in), 48 SD_DET (io), 49 STATUS (out), 50 GPIO43 (io), 51 NETLIGHT (out), 52 GPIO41 (io), 53 USIM_DET (io), 54 FLIGHTMODE (in), 55 SCL (out), 56 SDA (io), 57 GND (power), 58 GND (power), 59 AUX_ANT (in), 60 GND (power), 61 GND (power), 62 VBAT (power), 63 VBAT (power), 64 GND (power), 65 GND (power), 66 RTS (out), 67 CTS (in), 68 RXD (in), 69 RI (out), 70 DCD (out), 71 TXD (out), 72 DTR (in), 73 PCM_OUT (out), 74 PCM_IN (in), 75 PCM_SYNC (out), 76 PCM_CLK (out), 77 GND (power), 78 GND (power), 79 GNSS_ANT (io), 80 GND (power), 81 GND (power), 82 MAIN_ANT (io), 83 COEX1 (io), 84 COEX2 (io), 85 BOOT_CFG0 (in), 86 COEX3 (io), 87 GPIO77 (io)

## SMA_1
designator ANT?, comment SMA
Right Angled Female SMA Connector
footprint SMA RIGHT DIGIKEY (RF ANTENA)
pins: 1, 2

## SP0503BAHTG
designator D?
SP050xBA Series 8.5 V 30 pF Triple Uni-Directional TVS Avalanche Diode-SOT143-4; Manufacturer: Littelfuse; Operating Supply Voltage: 5.5V; Direction: Unidirectional; Value: 30pF; Number of Channels: 3; Clamping Voltage: 7.8V; Power Line Protection: No; Polarity: Bidirectional,Unidirectional; Max Power Dissipation: 225mW; ESD Protection: Yes; Max Reverse Leakage Current: 100nA; Voltage Rating (DC): 5V; Clamping Voltage-Max: 8V; Supplier: Future Electronics; Supplier Part Number: 4171229; Manufacturer Part Number: SP0503BAHTG; RoHS: Yes; Category: TVS Diodes; Stock: 3237; Pricing: 1=0.85, 15=0.75, 75=0.69, 300=0.64, 1500=0.585 (USD); Mounting Technology: Surface Mount; Case/Package: SOT-143; Pins: 4; Min Operating Temperature: -40°C; Max Operating Temperature: 85°C; Packaging: Tape and Reel; Number of Unidirectional Channels: 3; Reverse Standoff Voltage: 5.5V; Breakdown Voltage: 5.5V; Termination: SMD/SMT; Working Voltage: 5.5V; Peak Pulse Power: 225mW; Leakage Current: 100nA; Number of Elements: 3; Power Dissipation: 225mW; Diode Type: Avalanche; Series: SP05, SPA®; Length: 3.04mm; Width: 1.4mm; Height: 1.05mm; Depth: 1.4mm; Radiation Hardening: No; Reach SVHC Compliant: No; Lead Free: Lead Free; RoHS Compliant: Yes; ComponentLink1URL: https://datasheet.ciiva.com/15143/getdatasheetpartid-116020-15143550.pdf?src-supplier=Verical; ComponentLink1Description: https://datasheet.ciiva.com/15143/getdatasheetpartid-116020-15143550.pdf?src-supplier=Verical; ComponentLink2URL: https://datasheet.ciiva.com/7650/526672-7650894.pdf?src-supplier=Element14; ComponentLink2Description: https://datasheet.ciiva.com/7650/526672-7650894.pdf?src-supplier=Element14; ComponentLink3URL: https://datasheet.ciiva.com/8062/littefuse-spa-sp050x-8062422.pdf?src-supplier=Element14; ComponentLink3Description: https://datasheet.ciiva.com/8062/littefuse-spa-sp050x-8062422.pdf?src-supplier=Element14; ComponentLink4URL: https://datasheet.ciiva.com/22697/1911798-22697942.pdf?src-supplier=Element14; ComponentLink4Description: https://datasheet.ciiva.com/22697/1911798-22697942.pdf?src-supplier=Element14; ComponentLink5URL: https://datasheet.ciiva.com/4509/sp05x-leadfree-4509162.pdf?src-supplier=Mouser; ComponentLink5Description: https://datasheet.ciiva.com/4509/sp05x-leadfree-4509162.pdf?src-supplier=Mouser; ComponentLink6URL: https://datasheet.ciiva.com/332/sp05xxba-332551.pdf?src-supplier=Digi-Key; ComponentLink6Description: https://datasheet.ciiva.com/332/sp05xxba-332551.pdf?src-supplier=Digi-Key; ComponentLink7URL: https://datasheet.ciiva.com/332/sp05xxba-332552.pdf?src-supplier=Digi-Key; ComponentLink7Description: https://datasheet.ciiva.com/332/sp05xxba-332552.pdf?src-supplier=Digi-Key; ComponentLink8URL: https://datasheet.ciiva.com/332/sp05xxba-332550.pdf?src-supplier=Digi-Key; ComponentLink8Description: https://datasheet.ciiva.com/332/sp05xxba-332550.pdf?src-supplier=Digi-Key; ComponentLink9URL: https://datasheet.ciiva.com/16449/sp05xxba-16449463.pdf?src-supplier=Future+Electronics; ComponentLink9Description: https://datasheet.ciiva.com/16449/sp05xxba-16449463.pdf?src-supplier=Future+Electronics; Supplier 1: Mouser; Supplier Part Number 1: 576-SP0503BAHTG
footprint SOT143-4
pins: 1, 2, 3, 4

## test point
designator TP?, comment 5010  (value not drawn)  (no BOM)
Test Point, Multipurpose, Red, TH; Manufacturer: Keystone; CompType: Test Point Loop; U/M: EA; PartNumber: 5010; SymbolVersion: 2008-04-04; PackageReference: Red Multipurpose Testpoint; RoHS: Y; MountType: TH; ComponentLink1Description: Datasheet Link; ComponentLink1URL: http://www.keyelco.com/userAssets/file/M60-2p60.pdf; Value: Red; Publisher: Texas Instruments; LatestRevisionDate: 2015-08-25
footprint test point
pins: 1

## TXB0108RGYR
designator U?
IC 8-BIT TRNSLTR 15KV ESD 20VQFN; Manufacturer: Texas Instruments; Supplier 1: Mouser; Manufacturer Part Number: TXB0108RGYR; RoHS: Yes; Category: Voltage Level Shifters; Stock 1: 27868; Pricing 1: 1=1.54, 10=1.32, 50=1.32, 100=1.12, 1000=0.763, 10000=0.671 (USD); ComponentLink1URL: https://datasheet.ciiva.com/15096/getdatasheetpartid-172984-15096214.pdf?src-supplier=Verical; ComponentLink1Description: https://datasheet.ciiva.com/15096/getdatasheetpartid-172984-15096214.pdf?src-supplier=Verical; ComponentLink2URL: https://datasheet.ciiva.com/1899/txb0108-1899601.pdf?src-supplier=Digi-Key; ComponentLink2Description: https://datasheet.ciiva.com/1899/txb0108-1899601.pdf?src-supplier=Digi-Key; ComponentLink3URL: https://datasheet.ciiva.com/1899/txb0108-1899602.pdf?src-supplier=Digi-Key; ComponentLink3Description: https://datasheet.ciiva.com/1899/txb0108-1899602.pdf?src-supplier=Digi-Key; ComponentLink4URL: https://datasheet.ciiva.com/1899/txb0108-1899603.pdf?src-supplier=Digi-Key; ComponentLink4Description: https://datasheet.ciiva.com/1899/txb0108-1899603.pdf?src-supplier=Digi-Key; ComponentLink5URL: https://datasheet.ciiva.com/1508/1811182-1508728.pdf?src-supplier=Element14; ComponentLink5Description: https://datasheet.ciiva.com/1508/1811182-1508728.pdf?src-supplier=Element14; Supplier Part Number 1: 595-TXB0108RGYR
footprint 20-VQFN (3.5x4.5)
pins: 1 A1 (io), 2 VCCA (power), 3 A2 (io), 4 A3 (io), 5 A4 (io), 6 A5 (io), 7 A6 (io), 8 A7 (io), 9 A8 (io), 10 OE (in), 11 GND (power), 12 B8 (io), 13 B7 (io), 14 B6 (io), 15 B5 (io), 16 B4 (io), 17 B3 (io), 18 B2 (io), 19 VCCB (power), 20 B1 (io), 21 PAD (power)